# Altium schematic symbol library TAJA104K035SNJ.SCHLIB: 1 symbol
Pins are listed as number, name and electrical type; pins without a type are passive.

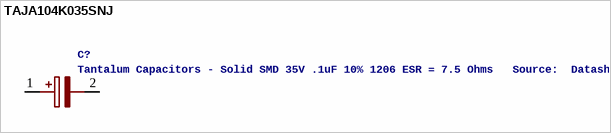
[diagram p0: symbol TAJA104K035SNJ]

## TAJA104K035SNJ
designator C?, comment Tantalum Capacitors - Solid SMD 35V .1uF 10% 1206 ESR = 7.5 Ohms   Source:  Datasheet
Manufacturer_Name: AVX; GateName_1: G$1; SymbolName_1: TAJA104K035SNJ; LibraryName: TAJA104K035SNJ; DeviceSetName: TAJA104K035SNJ; Mouser_Part_Number: 581-TAJA104K035SNJ; Mouser_Price-Stock: https://www.mouser.co.uk/ProductDetail/AVX/TAJA104K035SNJ?qs=0%252BYwpxhRXZhtcvceHRBYuQ%3D%3D; Manufacturer_Part_Number: TAJA104K035SNJ; Description: Tantalum Capacitors - Solid SMD 35V .1uF 10% 1206 ESR = 7.5 Ohms; Height: 1.8mm
footprint CAPPM3216X180N
pins: 1 + (io), 2 - (io)